# EAGLE library part CD4013BCN (library Fairchild_By_element14_Batch_1)
Dual D-Type Flip-Flop
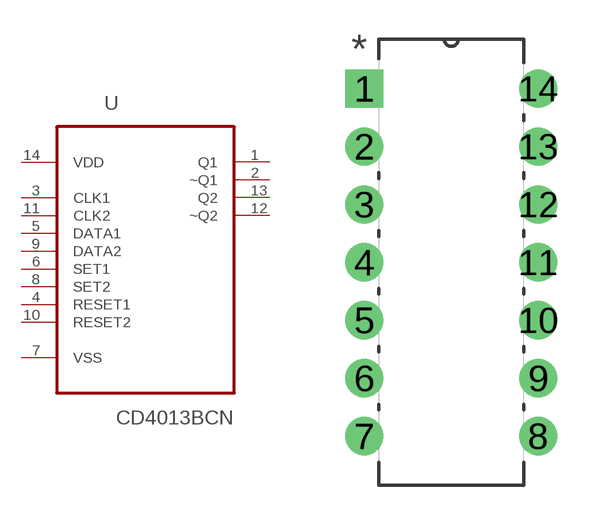
[diagram p150: symbol with the pads of DIP254P762X508-14; footprint DIP254P762X508-14]

Designator prefix U

## CD4013BCN (MPN: CD4013BCN; OC_FARNELL: 1014035; OC_NEWARK: 58K0149; PACKAGE: PDIP-14; SUPPLIER: Fairchild)  [DIP254P762X508-14]
1  Q1  out
2  ~Q1  out
3  CLK1  in
4  RESET1  in
5  DATA1  in
6  SET1  in
7  VSS  pwr
8  SET2  in
9  DATA2  in
10  RESET2  in
11  CLK2  in
12  ~Q2  out
13  Q2  out
14  VDD  pwr

## Footprint DIP254P762X508-14 (pad centres in mm)
drill 1.118 square: 1 -7.62,15.24
drill 1.118: 2 -7.62,12.7; 3 -7.62,10.16; 4 -7.62,7.62; 5 -7.62,5.08; 6 -7.62,2.54; 7 -7.62,0; 8 0,0; 9 0,2.54; 10 0,5.08; 11 0,7.62; 12 0,10.16; 13 0,12.7; 14 0,15.24